# Altium schematic symbol library Schlib1.SchLib: 60 symbols
Pins are listed as number, name and electrical type; pins without a type are passive.

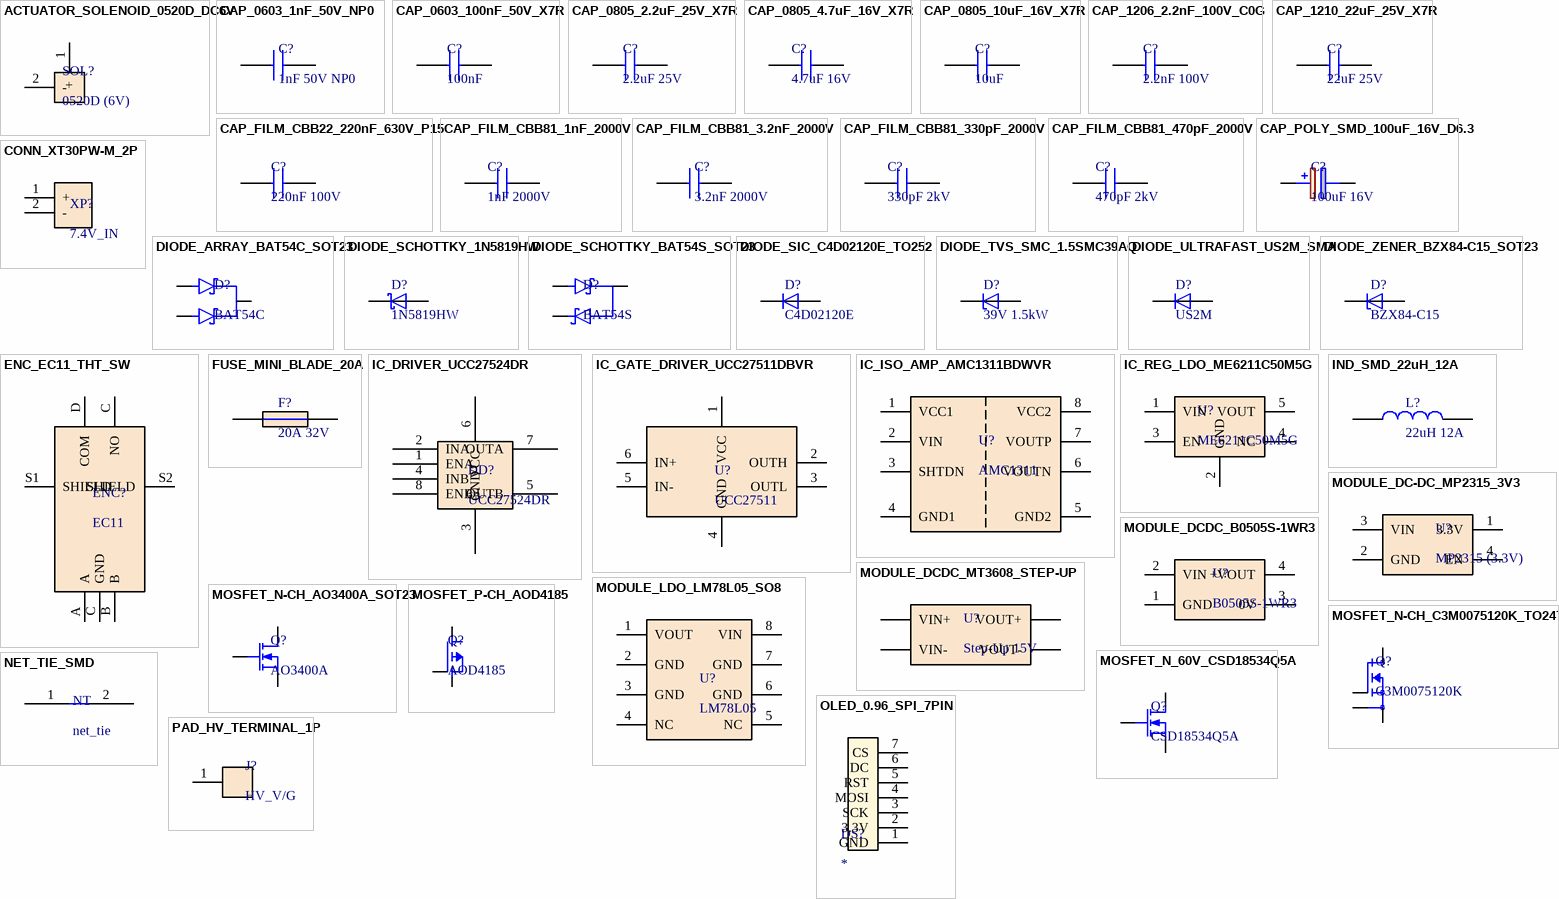
[diagram p0: symbols ACTUATOR_SOLENOID_0520D_DC6V to PAD_HV_TERMINAL_1P]

## ACTUATOR_SOLENOID_0520D_DC6V
designator SOL?, comment 0520D (6V)
Miniature Micro Solenoid Air Valve, 2-Position 2-Way Normally Closed (N/C), DC 3V - 6V, Gas Cutoff, 0520D
footprint PAD_2P_THT_P2.54MM
pins: 1 + (power), 2 - (power)

## CAP_0603_1nF_50V_NP0
designator C?, comment 1nF 50V NP0
Capacitor MLCC, Ceramic, 1 nF, 50 V, ±5%, C0G/NP0, SMD 0603, High Frequency Filter, Samsung Electro-Mechanics
footprint CHIP_0603_SMD (Chip Component 0603 (1608 Metric), Hand Soldering Extended Pads (0.8x0.85mm, Pitch 1.5mm), IPC-7351)
pins: 1, 2

## CAP_0603_100nF_50V_X7R
designator C?, comment 100nF
Capacitor MLCC, Ceramic, 100 nF, 50 V, ±10%, X7R, SMD 0603, Samsung Electro-Mechanics; Part Number:: CL10B104KB8NNNC
footprint CHIP_0603_SMD (Chip Component 0603 (1608 Metric), Hand Soldering Extended Pads (0.8x0.85mm, Pitch 1.5mm), IPC-7351)
pins: 1, 2

## CAP_0805_2.2uF_25V_X7R
designator C?, comment 2.2uF 25V
Capacitor MLCC, Ceramic, 2.2 uF, 25 V, ±10%, X7R, SMD 0805, Hitano Enterprise
footprint CHIP_0805_SMD (Chip Component 0805 (2012 Metric), IPC-7351 Level B (Nominal), Pad 1.0x1.3mm, Pitch 2.0mm)
pins: 1, 2

## CAP_0805_4.7uF_16V_X7R
designator C?, comment 4.7uF 16V
Capacitor MLCC, Ceramic, 4.7 uF, 16 V, ±10%, X7R, SMD 0805, Bypass / Decoupling, Samsung / Murata
footprint CHIP_0805_SMD (Chip Component 0805 (2012 Metric), IPC-7351 Level B (Nominal), Pad 1.0x1.3mm, Pitch 2.0mm)
pins: 1, 2

## CAP_0805_10uF_16V_X7R
designator C?, comment 10uF
Capacitor MLCC, Ceramic, 10 uF, 16 V, ±10%, X7R, SMD 0805, Hitano Enterprise; Part Number:: 0805B106K160NT
footprint CHIP_0805_SMD (Chip Component 0805 (2012 Metric), IPC-7351 Level B (Nominal), Pad 1.0x1.3mm, Pitch 2.0mm)
pins: 1, 2

## CAP_1206_2.2nF_100V_C0G
designator C?, comment 2.2nF 100V
Capacitor MLCC, Ceramic, 2.2 nF, 100 V, ±5%, C0G/NP0, SMD 1206, High Frequency Snubber, Yageo
footprint CHIP_1206_SMD (Chip Component 1206 (3216 Metric), IPC-7351 Level B (Nominal), Pad 1.2x1.7mm, Pitch 3.0mm)
pins: 1, 2

## CAP_1210_22uF_25V_X7R
designator C?, comment 22uF 25V
Capacitor MLCC, Ceramic, 22 uF, 25 V, ±10%, X7R, SMD 1210, Murata Electronics
footprint CHIP_1210_3225 (Chip Component 1210 (3225 Metric), IPC-7351 Level B (Nominal), Pad 1.2x2.7mm, Pitch 3.0mm)
pins: 1, 2

## CAP_FILM_CBB22_220nF_630V_P15
designator C?, comment 220nF 100V
Capacitor Film, Metallized Polypropylene (MKP/CBB22), 0.22 uF (220 nF), 630 VDC, ±5%, Radial THT, Pitch 15.0mm, ZVS Primary Tank
footprint CAP_FILM_P15.0_CBB22_W8.5_MKP (Film Capacitor Metallized  (MKP/CBB22), Pitch 15mm, Body 18.0x8.5x14.0mm, ZVS Resonant Tank)
pins: 1, 2

## CAP_FILM_CBB81_1nF_2000V
designator C?, comment 1nF 2000V
Capacitor Film, Metallized Polypropylene (PP), 1nF, 2000 VDC (2 kV), ±5%, Radial THT, High Pulse / Snubber, CBB81
footprint CAP_FILM_P15.0_CBB81_HEAVY_DUTY (Radial Film Capacitor (Dipped Epoxy/Pillow Type). Pitch: 15.0mm. Optimized for CBB81)
pins: 1, 2

## CAP_FILM_CBB81_3.2nF_2000V
designator C?, comment 3.2nF 2000V
Capacitor Film, Metallized Polypropylene (PP), 3.2 nF (3.3 nF), 2000 VDC (2 kV), ±5%, Radial THT, High Pulse / Resonant Tank, CBB81
footprint CAP_FILM_P15.0_CBB81_HEAVY_DUTY (Radial Film Capacitor (Dipped Epoxy/Pillow Type). Pitch: 15.0mm. Optimized for CBB81)
pins: 1, 2

## CAP_FILM_CBB81_330pF_2000V
designator C?, comment 330pF 2kV
Capacitor Film, Polypropylene (PP), 330 pF, 2000 VDC, ±5%, Radial THT, Pitch 15mm, CBB81
footprint CAP_FILM_P15.0_CBB81_HEAVY_DUTY (Radial Film Capacitor (Dipped Epoxy/Pillow Type). Pitch: 15.0mm. Optimized for CBB81)
pins: 1, 2

## CAP_FILM_CBB81_470pF_2000V
designator C?, comment 470pF 2kV
Capacitor Film, Polypropylene (PP), 470 pF, 2000 VDC, ±5%, Radial THT, Pitch 15mm, CBB81
footprint CAP_FILM_P15.0_CBB81_HEAVY_DUTY (Radial Film Capacitor (Dipped Epoxy/Pillow Type). Pitch: 15.0mm. Optimized for CBB81)
pins: 1, 2

## CAP_POLY_SMD_100uF_16V_D6.3
designator C?, comment 100uF 16V
Capacitor Polymer Aluminum, 100 uF, 16 V, ±20%, Low ESR, SMD Can 6.3x5.8 mm, Panasonic OS-CON / Nichicon
footprint CAP_ALU_SMD_D5.0_L5.4 (SMD Aluminum Electrolytic Capacitor, Dia 5.0mm, Length 5.4mm, Base 5.3x5.3mm, 100uF 16V, Pitch 4.4mm (Hand Solder))
pins: 1 +, 2 -

## CONN_XT30PW-M_2P
designator XP?, comment 7.4V_IN
Connector DC Power, XT30 Male 90° (Right Angle) PCB Mount, 2-Pin, 30A Cont. / 50A Peak, Amass XT30PW-M
footprint CONN_XT30PW-M_2P (DC Power Connector, Male 90° (Right Angle) PCB Mount, 2-Pin, Pitch 5.0mm, 30A Cont. / 50A Peak, with Locating Pins, Amass XT30PW-M)
pins: 1 + (power), 2 - (power)

## DIODE_ARRAY_BAT54C_SOT23
designator D?, comment BAT54C
Dual Schottky Barrier Diode, Common Cathode, 30V, 200mA, Vf=0.32V @ 2mA, SOT-23
footprint SOT-23_3P_SMD (SOT-23 (TO-236AB) 3-Lead, Pitch 0.95mm, Body 2.9x1.3mm, IPC-7351 Nominal)
pins: 1 A1, 2 A2, 3 K

## DIODE_SCHOTTKY_1N5819HW
designator D?, comment 1N5819HW
Schottky Barrier Diode, 40V, 1A, Vf=0.45V @ 1A, SOD-123
footprint SOD-123_2P_SMD (SOD-123 Surface Mount Diode, 2-Lead, Body 2.7x1.6mm, Total Length 3.7mm, IPC-7351)
pins: 1 K, 2 A

## DIODE_SCHOTTKY_BAT54S_SOT23
designator D?, comment BAT54S
Schottky Barrier Diode Pair, 30V 200mA, Dual Series Array, SOT-23 (Pin 1: A1, Pin 2: K2, Pin 3: Common)
footprint SOT-23_3P_SMD (SOT-23 (TO-236AB) 3-Lead, Pitch 0.95mm, Body 2.9x1.3mm, IPC-7351 Nominal)
pins: 1 A1, 2 K2, 3 K1+A2

## DIODE_SIC_C4D02120E_TO252
designator D?, comment C4D02120E
SiC Schottky Diode, 1200V, 2A, Zero Recovery, TO-252-2 (DPAK), Pin 1: Anode, Pin 2: Cathode (Tab)
footprint TO-252-2L_DPAK_THERMAL (TO-252-2L (DPAK), 2.28mm Pitch, Tab Drain with 3x3 Thermal Vias Array (0.6/0.3mm), Alpha & Omega AOD4185)
pins: 1 A, 2 K

## DIODE_TVS_SMC_1.5SMC39AQ
designator D?, comment 39V 1.5kW
TVS Diode Unidirectional, 33.3V Vwm, 1500W (10/1000us), DO-214AB (SMC), Automotive Qualified
footprint DIODE_DO-214AB_SMC
pins: 1 K, 2 A

## DIODE_ULTRAFAST_US2M_SMA
designator D?, comment US2M
Ultrafast High Voltage Surface Mount Rectifier, 1000V, 2A, trr=75ns, Vf=1.7V, SMA (DO-214AC)
footprint DIODE_DO-214AC_SMA (DO-214AC (SMA) Surface Mount Diode, 2-Lead, Body 4.6x2.8mm, Total Span 5.6mm, IPC-7351 Nominal)
pins: 1 K, 2 A

## DIODE_ZENER_BZX84-C15_SOT23
designator D?, comment BZX84-C15
Zener Diode, 15V, 250mW, ±5%, SOT-23 (TO-236AB), Gate Protection, Nexperia / NXP
footprint SOT-23_3P_SMD (SOT-23 (TO-236AB) 3-Lead, Pitch 0.95mm, Body 2.9x1.3mm, IPC-7351 Nominal)
pins: 1 A, 3 K

## ENC_EC11_THT_SW
designator ENC?, comment EC11
Rotary Encoder Incremental, 2-Bit Quadrature, with Push-Button Switch, 20 PPR, Through-Hole (THT), D-Shaft 20mm, Alps Alpine / Generic
footprint ENC_EC11_VERTICAL_THT (Rotary Encoder EC11 with Push Switch, Vertical THT, Body 11.8x14.5mm, Bushing M7x0.75, 2x Side Mounting Brackets)
pins: A, B, C GND, D COM, S1 SHIELD, S2 SHIELD, С NO

## FUSE_MINI_BLADE_20A
designator F?, comment 20A 32V
Automotive Fuse Mini Blade, 20A, 32V DC, Fast-Acting, with PCB Holder/Clips
footprint FUSE_HOLDER_MINI_KEYSTONE_3544 (Mini Automotive Blade Fuse Clip Assembly, Keystone 3544, 4-Pin In-Line THT, Hole D=1.7mm, Body 14.68x4.75mm, Dual-Pin per Terminal for 20-30A)
pins: 1, 2

## IC_DRIVER_UCC27524DR
designator DD?, comment UCC27524DR
Dual 5A High-Speed Low-Side Gate Driver, 4.5V to 18V VDD, Non-Inverting, SOIC-8, Texas Instruments
footprint SOIC-8_1.27_4.9x3.9mm (SOIC-8 Surface Mount IC, 8-Lead, Pitch 1.27mm, Body 4.90x3.90mm, Span 6.00mm (TI D-Package))
pins: 1 ENA, 2 INA, 3 GND, 4 INB, 5 OUTB, 6 VCC, 7 OUTA, 8 ENB

## IC_GATE_DRIVER_UCC27511DBVR
designator U?, comment UCC27511
Single-Channel High-Speed Low-Side Gate Driver, 4A Source / 8A Sink, Split Outputs (OUTH/OUTL), 4.5V to 18V, SOT-23-6, Texas Instruments
footprint SOT-23-6_DBV_HANDSOLDER (SOT-23-6 (TI DBV0006A), 6-Lead, Pitch 0.95mm, Extended Pads (1.25x0.60mm) for Manual Soldering, UCC27511)
pins: 1 VCC (power), 2 OUTH, 3 OUTL, 4 GND, 5 IN-, 6 IN+

## IC_ISO_AMP_AMC1311BDWVR
designator U?, comment AMC1311
Precision Isolated Amplifier, 0V to 2V Input, 5kVrms Isolation, High CMTI (100kV/us), SOIC-8 Wide (DWV), Texas Instruments
footprint SOIC-8-DWV_WIDE_HANDSOLDER (SOIC-8 Wide Body (TI DWV0008A), 8-Lead, Pitch 1.27mm, Body 7.5x5.85mm, 9.1mm Creepage/Clearance, Extended Pads (2.0x0.65mm) for Manual Soldering, AMC1311)
pins: 1 VCC1, 2 VIN, 3 SHTDN, 4 GND1, 5 GND2, 6 VOUTN, 7 VOUTP, 8 VCC2

## IC_REG_LDO_ME6211C50M5G
designator U?, comment ME6211C50M5G
LDO Voltage Regulator, Fixed 5.0V, 500mA, Low Noise, High PSRR, SOT-23-5, Microne
footprint SOT-23-5_M5_HANDSOLDER (SOT-23-5 (TO-236-5), 5-Lead, Pitch 0.95mm, Extended Pads (1.25x0.60mm) for Manual Soldering, Body 2.90x1.60mm, ME6211)
pins: 1 VIN (power), 2 GND (power), 3 EN, 4 NC, 5 VOUT (power)

## IND_SMD_22uH_12A
designator L?, comment 22uH 12A
Inductor Power Shielded SMD, 22 uH, ±20%, 12A Irms, Ferrite Core, 13.5x12.5x6.2, SRP1265A-220M
footprint IND_SRP1265A_13.5x12.5_HANDSOLDER (Shielded Power Inductor, Body 13.5x12.5x6.2mm, Bourns SRP1265A Series, Extended Pads (3.8x5.0mm, 8.0mm Gap) for Manual Soldering)
pins: 1, 2

## MODULE_DC-DC_MP2315_3V3
designator U?, comment MP2315 (3.3V)
DC-DC Step-Down Buck Converter Module, MP2315, Vin 4.5V-24V, Vout 3.3V 3A, Sub-Board PCB Mount
footprint MODULE_DC-DC_MP2315_MINI_BUCK_THT (Mini MP2315 Step-Down Buck Converter Module, 4-Pin 2.54mm Pitch Header (VO+, GND, IN+, EN), Board Size 20x11mm, Sub-Board PCB Mount)
pins: 1 3.3V, 2 GND (power), 3 VIN, 4 EN (power)

## MODULE_DCDC_B0505S-1WR3
designator U?, comment B0505S-1WR3
Isolated DC-DC Converter, 5V In, 5V Out, 1W (200mA), 3000 VDC Isolation, Unregulated, SIP-4, Mornsun
footprint CONV_DC-DC_MORNSUN_SIP-4_11.6x6.0 (Isolated DC-DC Converter 1W, SIP-4 Package, Mornsun B_S-1WR3 / E_S-1WR3 Series, Body 11.60x6.00x10.16mm, Pitch 2.54mm, 3kV Isolation)
pins: 1 GND (power), 2 VIN, 3 0V, 4 +VOUT

## MODULE_DCDC_MT3608_STEP-UP
designator U?, comment Step-Up 15V
Miniature DC-DC Step-Up Boost Converter Module, Vin 2-24V, Vout Adj 5-28V (Preset to 15V), 2A Max, MT3608
footprint MODULE_DC-DC_MT3608_BOOST_THT (MT3608 Step-Up Boost Converter Module, 36x17x7mm, 4-Pin Corner Mount (VIN+, VIN-, VOUT+, VOUT-), Pitch 31.0x13.5mm, Preset to 15V)
pins: 1 VIN+, 2 VIN-, 3 VOUT+, 4 VOUT-

## MODULE_LDO_LM78L05_SO8
designator U?, comment LM78L05
IC REG LINEAR 5V 100MA SOIC-8, Vin up to 30V
footprint SOIC-8_1.27_4.9x3.9mm (SOIC-8 Surface Mount IC, 8-Lead, Pitch 1.27mm, Body 4.90x3.90mm, Span 6.00mm (TI D-Package))
pins: 1 VOUT, 2 GND, 3 GND, 4 NC, 5 NC, 6 GND, 7 GND, 8 VIN

## MOSFET_N-CH_AO3400A_SOT23
designator Q?, comment AO3400A
MOSFET N-Channel, 30V, 5.7A, 28 mOhm @ 4.5V, Logic Level, SOT-23 (TO-236AB), Alpha & Omega Semiconductor
footprint SOT-23_3P_SMD (SOT-23 (TO-236AB) 3-Lead, Pitch 0.95mm, Body 2.9x1.3mm, IPC-7351 Nominal)
pins: 1 G, 2 SR, 3 DR

## MOSFET_N-CH_C3M0075120K_TO247-4
designator Q?, comment C3M0075120K
SiC Power MOSFET N-CH, 1200V, 30A, 75 mOhm, Kelvin Source, TO-247-4, Wolfspeed / Cree
footprint TO-247-4_WOLFSPEED_SLOTTED_VERT (TO-247 4-Lead Package, Pitch 5.08-2.54-2.54mm, Plated Slots (1.33x2.01mm), Dedicated Kelvin Source, Wolfspeed C3M0075120K / C3M Series)
pins: 1 D, 2 S, 3 KS, 4 G

## MOSFET_N_60V_CSD18534Q5A
designator Q?, comment CSD18534Q5A
MOSFET N-Channel, 60V, 69A, 3.5 mOhm, Logic Level, SON-8 (DFN 5x6), Texas Instruments
footprint SON-8_5x6_CSD18534Q5A_THERMAL (N-Channel Power MOSFET, SON 5x6mm (TI Q5A Package), Monolithic Drain Thermal Pad (4.95x4.50mm) with 2x2 Stencil Array & Thermal Vias, CSD18534Q5A)
pins: 1 SR, 2 G, 3 DR

## MOSFET_P-CH_AOD4185
designator Q?, comment AOD4185
MOSFET P-Channel, -40V, -40A, 20 mOhm @ -10V, TO-252-2L (DPAK), Alpha & Omega Semiconductor
footprint TO-252-2L_DPAK_THERMAL (TO-252-2L (DPAK), 2.28mm Pitch, Tab Drain with 3x3 Thermal Vias Array (0.6/0.3mm), Alpha & Omega AOD4185)
pins: 1 G, 2 D, 3 S

## NET_TIE_SMD
designator NT, comment net_tie  (net tie, no BOM)
footprint NET_TIE_SMD
pins: 1 (power), 2 (power)

## OLED_0.96_SPI_7PIN
designator DS?
Fast monochrome screen (with a resolution of 128x64 pixels that is connected via a  seven-wire bus
footprint DISP_OLED_0.96_SSD1306_SPI_7PIN_THT (0.96 inch OLED Display Module, SSD1306, 128x64, 7-Pin 2.54mm SPI Header, 4x M2 Mounting Holes (23.3x23.8mm Pitch), Body 27.30x27.80mm)
pins: 1 GND, 2 3.3V, 3 SCK, 4 MOSI, 5 RST, 6 DC, 7 CS

## PAD_HV_TERMINAL_1P
designator J?, comment HV_V/G
High Voltage Solder Pad / Wire Terminal, Single Pin THT, Hole D=1.8mm, Pad D=3.5mm
footprint PAD_HV_UL3239_28AWG_ROUND (High Voltage Wire Terminal, UL3239 28AWG (7x0.12), Hole D=1.0mm, Pad D=2.5mm Round, Integrated Strain Relief Hole D=1.8mm, 6-7kV DBD Jet)
pins: 1

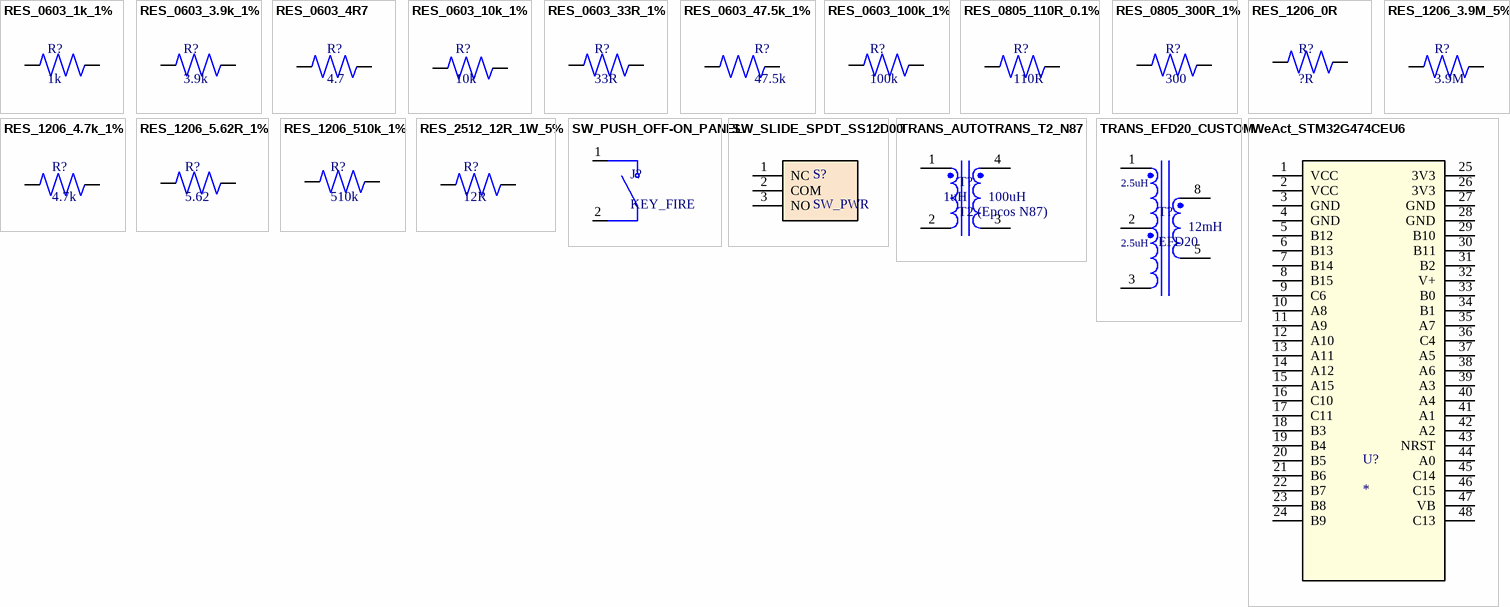
[diagram p1: symbols RES_0603_1k_1% to WeAct_STM32G474CEU6]

## RES_0603_1k_1%
designator R?, comment 1k
Resistor, 1 kOhm, ±1%, 0.1W (1/10W), 75V, SMD 0603, Thick Film, Yageo
footprint CHIP_0603_SMD (Chip Component 0603 (1608 Metric), Hand Soldering Extended Pads (0.8x0.85mm, Pitch 1.5mm), IPC-7351)
pins: 1, 2

## RES_0603_3.9k_1%
designator R?, comment 3.9k
Resistor, 3.9 kOhm, ±1%, 0.1W (1/10W), 75V, SMD 0603, Thick Film, Yageo
footprint CHIP_0603_SMD (Chip Component 0603 (1608 Metric), Hand Soldering Extended Pads (0.8x0.85mm, Pitch 1.5mm), IPC-7351)
pins: 1, 2

## RES_0603_4R7
designator R?, comment 4.7
Resistor, 4.7 Ohm, ±5%, 0.1W (1/10W), 50V, SMD 0603, Gate Drive Series, KOME
footprint CHIP_0603_SMD (Chip Component 0603 (1608 Metric), Hand Soldering Extended Pads (0.8x0.85mm, Pitch 1.5mm), IPC-7351)
pins: 1, 2

## RES_0603_10k_1%
designator R?, comment 10k
Resistor, 10 kOhm, ±1%, 0.1W (1/10W), 75V, SMD 0603, Thick Film, Hitano
footprint CHIP_0603_SMD (Chip Component 0603 (1608 Metric), Hand Soldering Extended Pads (0.8x0.85mm, Pitch 1.5mm), IPC-7351)
pins: 1, 2

## RES_0603_33R_1%
designator R?, comment 33R
Resistor, 33 Ohm, ±1%, 0.1W (1/10W), SMD 0603, Thick Film, Yageo; Part Number:: RC0603FR-0733RL; Manufacturer:: Yageo
footprint CHIP_0603_SMD (Chip Component 0603 (1608 Metric), Hand Soldering Extended Pads (0.8x0.85mm, Pitch 1.5mm), IPC-7351)
pins: 1, 2

## RES_0603_47.5k_1%
designator R?, comment 47.5k
Resistor, 47.5 kOhm, ±1%, 0.1W (1/10W), SMD 0603, Thick Film, Yageo
footprint CHIP_0603_SMD (Chip Component 0603 (1608 Metric), Hand Soldering Extended Pads (0.8x0.85mm, Pitch 1.5mm), IPC-7351)
pins: 1, 2

## RES_0603_100k_1%
designator R?, comment 100k
Resistor, 100 kOhm, ±1%, 0.1W (1/10W), SMD 0603, Thick Film, Yageo
footprint CHIP_0603_SMD (Chip Component 0603 (1608 Metric), Hand Soldering Extended Pads (0.8x0.85mm, Pitch 1.5mm), IPC-7351)
pins: 1, 2

## RES_0805_110R_0.1%
designator R?, comment 110R
Resistor Thin Film, 110 Ohm, ±0.1%, 0.125W (1/8W), 150V, SMD 0805, High Precision Gate Resistor, Yageo
footprint CHIP_0805_SMD (Chip Component 0805 (2012 Metric), IPC-7351 Level B (Nominal), Pad 1.0x1.3mm, Pitch 2.0mm)
pins: 1, 2

## RES_0805_300R_1%
designator R?, comment 300
Resistor, 300 Ohm, ±1%, 0.125W (1/8W), 150V, SMD 0805, Thick Film, Yageo
footprint CHIP_0805_SMD (Chip Component 0805 (2012 Metric), IPC-7351 Level B (Nominal), Pad 1.0x1.3mm, Pitch 2.0mm)
pins: 1, 2

## RES_1206_0R
designator R?, comment ?R
just in case
footprint CHIP_1206_SMD (Chip Component 1206 (3216 Metric), IPC-7351 Level B (Nominal), Pad 1.2x1.7mm, Pitch 3.0mm)
pins: 1, 2

## RES_1206_3.9M_5%
designator R?, comment 3.9M
Resistor, 3.9 MOhm, ±5%, 0.25W (1/4W), 200V, SMD 1206, Bleeder / High Resistance, Thick Film, Hitano
footprint CHIP_1206_SMD (Chip Component 1206 (3216 Metric), IPC-7351 Level B (Nominal), Pad 1.2x1.7mm, Pitch 3.0mm)
pins: 1, 2

## RES_1206_4.7k_1%
designator R?, comment 4.7k
Resistor, 4.7 kOhm, ±1%, 0.25W (1/4W), 200V, SMD 1206, Thick Film, Hitano
footprint CHIP_1206_SMD (Chip Component 1206 (3216 Metric), IPC-7351 Level B (Nominal), Pad 1.2x1.7mm, Pitch 3.0mm)
pins: 1, 2

## RES_1206_5.62R_1%
designator R?, comment 5.62
Resistor, 5.62 Ohm, ±1%, 0.25W (1/4W), 200V, SMD 1206, Thick Film, Panasonic
footprint CHIP_1206_SMD (Chip Component 1206 (3216 Metric), IPC-7351 Level B (Nominal), Pad 1.2x1.7mm, Pitch 3.0mm)
pins: 1, 2

## RES_1206_510k_1%
designator R?, comment 510k
Resistor, 510 kOhm, ±1%, 0.25W (1/4W), 200V, SMD 1206, High Voltage Divider, Thick Film, Yageo
footprint CHIP_1206_SMD (Chip Component 1206 (3216 Metric), IPC-7351 Level B (Nominal), Pad 1.2x1.7mm, Pitch 3.0mm)
pins: 1, 2

## RES_2512_12R_1W_5%
designator R?, comment 12R
Resistor, 12 Ohm, ±5%, 1W, 200V, SMD 2512, High Power Pulse Snubber, Thick Film, UniOhm / Yageo
footprint RES_2512_6.3x3.2_HANDSOLDER (Resistor SMD 2512 (Metric 6432), 1W, Extended Pads (2.00x3.20mm, 4.5mm Gap, 8.5mm Span) for Manual Soldering, Pulse Snubber)
pins: 1, 2

## SW_PUSH_OFF-ON_PANEL
designator J?, comment KEY_FIRE
Switch Tactile
footprint PAD_WIRE_2P_STRAIN_P2.54
pins: 1, 2

## SW_SLIDE_SPDT_SS12D00
designator S?, comment SW_PWR
Slide Switch, SPDT (1P2T), 50V DC 0.5A, Through-Hole (THT), Vertical, Actuator Height 6mm
footprint TNT_SW_SLIDE_2.5mm (Slide Switch SPDT (1P2T), Vertical, Body 8.5x3.7x3.5mm, Metric Pitch 2.50mm, Travel 2.0mm, Extended Oval Pads (1.70x2.40mm) for Manual Soldering, SS12D00)
pins: 1 NC, 2 COM, 3 NO

## TRANS_AUTOTRANS_T2_N87
designator T?, comment T2 (Epcos N87)
Pulse Autotransformer, Ferrite Ring Epcos B64290-L632-X87 (N87), Pri: Braid 3.0mm (1-2T), Sec: UL3239 28AWG (10-12T)
footprint TRANS_AUTOTRANS_T2_EPCOS_R20_N87 (Pulse Transformer T2, Epcos B64290L0632X087 (R20x10x7 N87 Toroid), Pri Braid 3mm (Pad D4.0/H2.2), Sec UL3239 28AWG, 2x Zip-Tie NPTH D3.2mm)
pins: 1 +850V, 2 DRAIN, 3 HV_GND, 4 SEC+
text: 1uH; 100uH

## TRANS_EFD20_CUSTOM
designator T?, comment EFD20
Custom ZVS Step-Up Transformer, EFD20 Core (N87/PC40), 8-Pin Bobbin, Push-Pull Center-Tapped Primary
footprint TRANS_EFD20_CORETECH_BH-EFD20-1-8R_THT (Transformer Bobbin EFD20/10/7, CoreTech BH-EFD20-1-8R (PHL), 8-Pin THT, Row Pitch 17.5mm, Pin Pitch 5.0mm, Dedicated 15mm HV Secondary Spacing (Pins 8-5))
pins: 1 PRI1, 2 TAP, 3 PRI2, 5 SEC2, 8 SEC1
text: 2.5uH; 12mH

## WeAct_STM32G474CEU6
designator U?
Arm Cortex-M4 core with DSP and FPU, 170MHz with 32Kbytes of Flash memory, Math Accelerator, Medium Analog level integration STM board
footprint MODULE_WEACT_STM32G474CEU6_DIP (WeAct Studio STM32G474CEU6 Core Board, 36.28x28.14mm, 4x12 Pin Headers Pitch 2.54mm (Row Dist 20.32/25.4mm) + 4-Pin SWD, Mapped to Custom Schematic Pins)
pins: 1 VCC, 2 VCC, 3 GND, 4 GND, 5 B12 , 6 B13 , 7 B14 , 8 B15 , 9 C6, 10 A8, 11 A9, 12 A10, 13 A11, 14 A12, 15 A15, 16 C10, 17 C11, 18 B3, 19 B4, 20 B5, 21 B6, 22 B7, 23 B8, 24 B9, 25 3V3, 26 3V3, 27 GND, 28 GND, 29 B10, 30 B11, 31 B2, 32 V+, 33 B0, 34 B1, 35 A7, 36 C4, 37 A5, 38 A6, 39 A3, 40 A4, 41 A1, 42 A2, 43 NRST, 44 A0, 45 C14, 46 C15, 47 VB, 48 C13